# EAGLE library part THS7314 (library TI-VideoAmp)
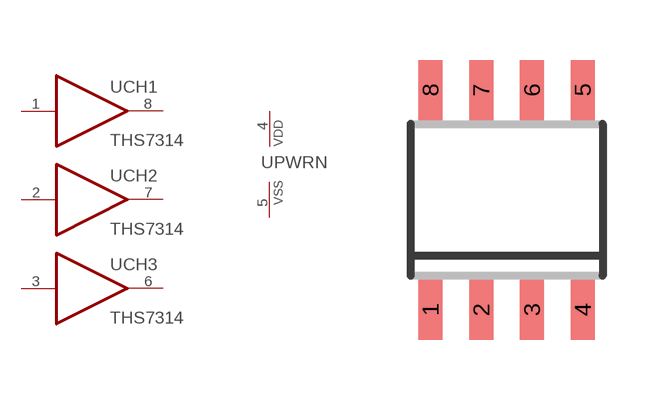
[diagram p0: symbol with the pads of SOIC8; footprint SOIC8]

Designator prefix -; gates CH1=BUFFER CH2=BUFFER CH3=BUFFER PWRN=PWRN

## THS7314  [SOIC8]
1  CH1:I
2  CH2:I
3  CH3:I
4  PWRN:VDD  pwr
5  PWRN:VSS  pwr
6  CH3:O  out
7  CH2:O  out
8  CH1:O  out

## Footprint SOIC8 (pad centres in mm)
SOIC-8 CASE 751-07 Source: http://www.onsemi.com/pub/Collateral/MC34164-D.PDF D (R-PDSO-G8)PLATIC SMALL-OUTLINE PACKAGE Source: http://focus.ti.com/lit/ds/symlink/tlc27l2.pdf
smd 0.6 x 1.5: 1 -1.905,-2.75; 2 -0.635,-2.75; 3 0.635,-2.75; 4 1.905,-2.75; 5 1.905,2.75; 6 0.635,2.75; 7 -0.635,2.75; 8 -1.905,2.75